# Altium schematic symbol library GP2Y1010AU0F.SchLib: 1 symbol
Pins are listed as number, name and electrical type; pins without a type are passive.

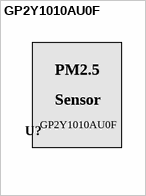
[diagram p0: symbol GP2Y1010AU0F]

## GP2Y1010AU0F
designator U?  (no BOM)
text: PM2.5; Sensor